# EAGLE library part MAPPYDOT (library MappyDotEagleFootprint)
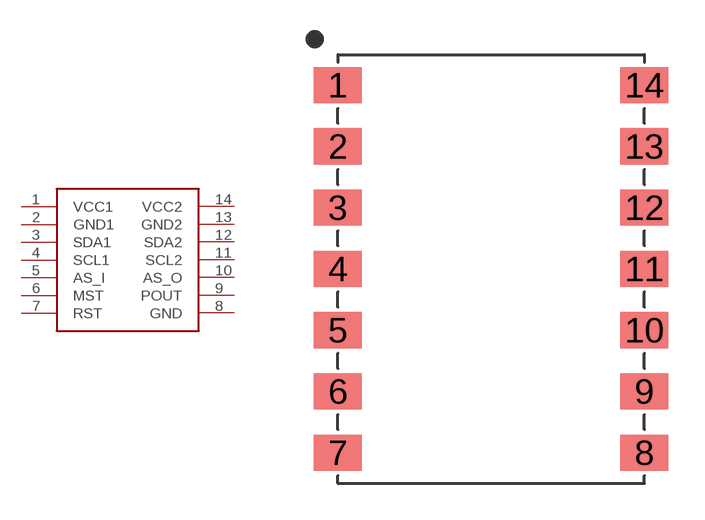
[diagram p0: symbol with the pads of MAPPYDOT; footprint MAPPYDOT]

Designator prefix -

## MAPPYDOT  [MAPPYDOT]
1  VCC1  pwr
2  GND1  pas
3  SDA1
4  SCL1
5  AS_I
6  MST
7  RST  in
8  GND  pas
9  POUT
10  AS_O
11  SCL2
12  SDA2
13  GND2  pas
14  VCC2  pwr

## Footprint MAPPYDOT (pad centres in mm)
smd 2 x 1.5: 1 -6.35,15.24; 2 -6.35,12.7; 3 -6.35,10.16; 4 -6.35,7.62; 5 -6.35,5.08; 6 -6.35,2.54; 7 -6.35,0; 8 6.35,0; 9 6.35,2.54; 10 6.35,5.08; 11 6.35,7.62; 12 6.35,10.16; 13 6.35,12.7; 14 6.35,15.24